# Altium footprint library C_0805.PcbLib: 1 footprints
Each footprint in its own frame and in the unit in brackets; x right, y up, seen from the top. Pads: shape width x height; smd on the part's side, far side on the other; paste and mask are expansions set on the pad; w line width, h text height; cw(c..) or ccw(c..) is an arc to the next point about the centre after c.
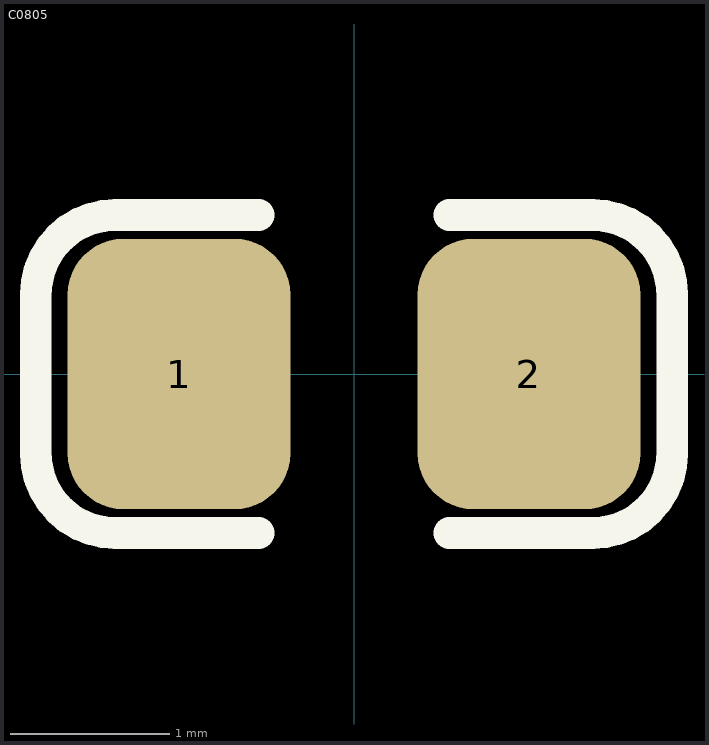
[diagram p0: the footprint, top view; thin cyan lines are the x and y axes]

## C0805 [mm]
pads (2):
  rrect50% 1.4x1.7 smd: 1(-1.1,0) 2(1.1,0)
Top Overlay:
  lines w0.2: -0.6,-1 -1.5,-1 cw(c-1.5,-0.5) -2,-0.5 -2,0.5 cw(c-1.5,0.5) -1.5,1 -0.6,1 ; 0.6,-1 1.5,-1 ccw(c1.5,-0.5) 2,-0.5 2,0.5 ccw(c1.5,0.5) 1.5,1 0.6,1
3D body "CAP0805.stp": height 0.78, standoff 0, extent -1,-0.625 1,0.625